# Altium footprint library QFN.PcbLib: 24 footprints (part 2 of 2)
Each footprint in its own frame and in the unit in brackets; x right, y up, seen from the top. Pads: shape width x height; smd on the part's side, far side on the other; paste and mask are expansions set on the pad; w line width, h text height; cw(c..) or ccw(c..) is an arc to the next point about the centre after c.
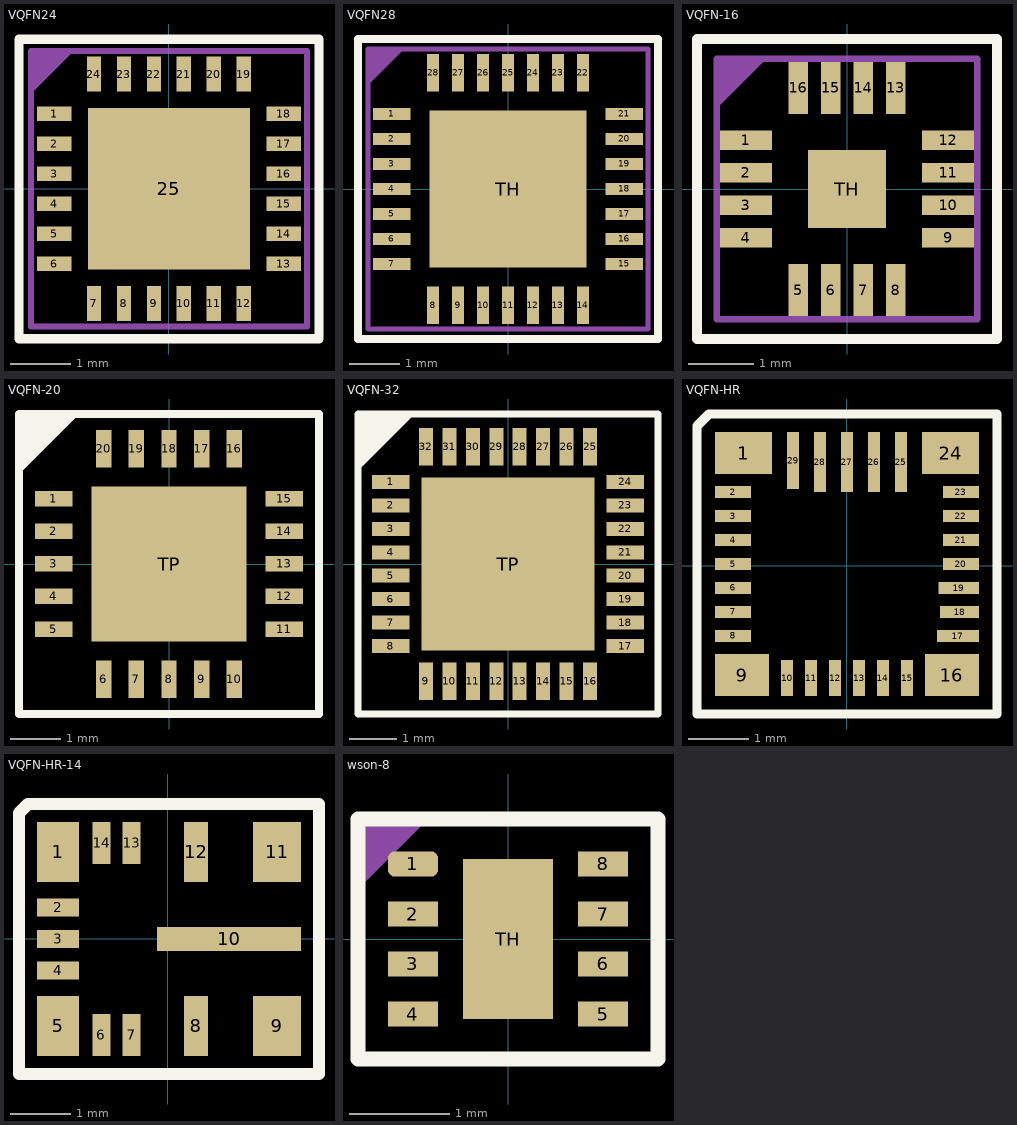
[diagram p1: the footprints below, top view; thin cyan lines are the x and y axes]

## VQFN24 [mm]
pads (25):
  rect 0.58x0.24 smd: 1(-1.912,1.25) 2(-1.912,0.75) 3(-1.912,0.25) 4(-1.912,-0.25) 5(-1.912,-0.75) 6(-1.912,-1.25) 13(1.912,-1.25) 14(1.912,-0.75) 15(1.912,-0.25) 16(1.912,0.25) 17(1.912,0.75) 18(1.912,1.25)
  rect 0.24x0.58 smd: 7(-1.25,-1.912) 8(-0.75,-1.912) 9(-0.25,-1.912) 10(0.25,-1.912) 11(0.75,-1.912) 12(1.25,-1.912) 19(1.25,1.913) 20(0.75,1.913) 21(0.25,1.913) 22(-0.25,1.913) 23(-0.75,1.913) 24(-1.25,1.913)
  rect 2.7x2.7 smd: 25(0,0)
Top Overlay:
  lines w0.153: -2.5,-2.5 -2.5,2.491 2.502,2.491 2.502,-2.5 -2.5,-2.5
  text "." at -3.196,2.054 h1.52
Top Assembly:
  region: -2.3,2.3 -1.65,2.3 -2.3,1.65
  lines w0.1: -2.3,1.65 -1.65,2.3 ; -2.3,-2.3 -2.3,2.3 2.3,2.3 2.3,-2.3 -2.3,-2.3
  text "'.Designator'" at -2.447,3.02 h0.8
Top Courtyard:
  lines w0.1: -2.3,1.65 -1.65,2.3 ; -2.3,-2.3 -2.3,2.3 2.3,2.3 2.3,-2.3 -2.3,-2.3
  lines w0.153: -0.4,0 0.4,0 ; 0,-0.4 0,0.4
3D body "VQFN-24.step": height 1.06, standoff -0.01, extent -2.05,-2.05 2.05,2.05

## VQFN28 [mm]
pads (29):
  rect 0.75x0.24 smd: 1(-2.325,1.5) 2(-2.325,1) 3(-2.325,0.5) 4(-2.325,0) 5(-2.325,-0.5) 6(-2.325,-1) 7(-2.325,-1.5) 15(2.325,-1.5) 16(2.325,-1) 17(2.325,-0.5) 18(2.325,0) 19(2.325,0.5) 20(2.325,1) 21(2.325,1.5)
  rect 0.24x0.75 smd: 8(-1.5,-2.325) 9(-1,-2.325) 10(-0.5,-2.325) 11(0,-2.325) 12(0.5,-2.325) 13(1,-2.325) 14(1.5,-2.325) 22(1.5,2.325) 23(1,2.325) 24(0.5,2.325) 25(0,2.325) 26(-0.5,2.325) 27(-1,2.325) 28(-1.5,2.325)
  rect 3.15x3.15 smd: TH(0,0)
Top Overlay:
  lines w0.153: -3,-3 3,-3 3,3 -3,3 -3,-3
  text "." at -3.821,2.279 h1.52
Top Assembly:
  region: -2.8,2.8 -2.15,2.8 -2.8,2.15
  lines w0.1: -2.8,2.15 -2.15,2.8 ; -2.8,-2.8 -2.8,2.8 2.8,2.8 2.8,-2.8 -2.8,-2.8
  text "'.Designator'" at -2.447,3.02 h0.8
Top Courtyard:
  lines w0.1: -2.8,2.15 -2.15,2.8 ; -2.8,-2.8 2.8,-2.8 2.8,2.8 -2.8,2.8 -2.8,-2.8
  lines w0.153: -0.4,0 0.4,0 ; 0,-0.4 0,0.4
3D body "QFN28_5x5.step": height 0.95, standoff 0, extent -2.6,-2.6 2.6,2.6

## VQFN-16 [mm]
pads (17):
  rect 0.8x0.3 smd: 1(-1.55,0.75) 2(-1.55,0.25) 3(-1.55,-0.25) 4(-1.55,-0.75) 9(1.55,-0.75) 10(1.55,-0.25) 11(1.55,0.25) 12(1.55,0.75)
  rect 0.3x0.8 smd: 5(-0.75,-1.55) 6(-0.25,-1.55) 7(0.25,-1.55) 8(0.75,-1.55) 13(0.75,1.55) 14(0.25,1.55) 15(-0.25,1.55) 16(-0.75,1.55)
  rect 1.2x1.2 smd: TH(0,0)
Top Overlay:
  lines w0.153: -2.3,-2.3 -2.3,2.3 2.3,2.3 2.3,-2.3 -2.3,-2.3
  text "." at -3.046,2.229 h1.52
Top Assembly:
  region: -1.975,1.975 -1.325,1.975 -1.975,1.325
  lines w0.1: -2,1.3 -1.3,2 ; -2,-2 2,-2 2,2 -2,2 -2,-2
  text "'.Designator'" at -4.532,-0.333 h0.8
Top Courtyard:
  lines w0.1: -2,1.3 -1.3,2 ; -2,-2 -2,2 2,2 2,-2 -2,-2
  lines w0.153: -0.325,0 0.325,0 ; 0,-0.325 0,0.325
3D body "VQFN16.step": height 0.9, standoff 0, extent -1.75,-1.75 1.75,1.75

## VQFN-20 [mm]
pads (21):
  rect 0.75x0.31 smd: 1(-2.3,1.3) 2(-2.3,0.65) 3(-2.3,0) 4(-2.3,-0.65) 5(-2.3,-1.3) 11(2.3,-1.3) 12(2.3,-0.65) 13(2.3,0) 14(2.3,0.65) 15(2.3,1.3)
  rect 0.31x0.75 smd: 6(-1.3,-2.3) 7(-0.65,-2.3) 8(0,-2.3) 9(0.65,-2.3) 10(1.3,-2.3) 16(1.3,2.3) 17(0.65,2.3) 18(0,2.3) 19(-0.65,2.3) 20(-1.3,2.3)
  rect 3.1x3.1 smd: TP(0,0)
Top Overlay:
  region: -3,3 -1.8,3 -3,1.8
  lines w0.153: -3,-3 3,-3 3,3 -3,3 -3,-3
Top Assembly:
  region: -3,3 -1.8,3 -3,1.8
  lines w0.1: -3,-3 -3,3 3,3 3,-3 -3,-3
  text "'.Designator'" at -4.532,-0.333 h0.8
Top Courtyard:
  lines w0.1: -3,-3 -3,3 3,3 3,-3 -3,-3
  lines w0.153: -0.325,0 0.325,0 ; 0,-0.325 0,0.325
3D body "User Library-VQFN-20-1.step": height 1, standoff -0.05, extent -2.625,-2.625 2.625,2.625

## VQFN-32 [mm]
pads (33):
  rect 0.8x0.3 smd mask+0.05: 1(-2.5,1.75) 2(-2.5,1.25) 3(-2.5,0.75) 4(-2.5,0.25) 5(-2.5,-0.25) 6(-2.5,-0.75) 7(-2.5,-1.25) 8(-2.5,-1.75) 17(2.5,-1.75) 18(2.5,-1.25) 19(2.5,-0.75) 20(2.5,-0.25) 21(2.5,0.25) 22(2.5,0.75) 23(2.5,1.25) 24(2.5,1.75)
  rect 0.3x0.8 smd mask+0.05: 9(-1.75,-2.5) 10(-1.25,-2.5) 11(-0.75,-2.5) 12(-0.25,-2.5) 13(0.25,-2.5) 14(0.75,-2.5) 15(1.25,-2.5) 16(1.75,-2.5) 25(1.75,2.5) 26(1.25,2.5) 27(0.75,2.5) 28(0.25,2.5) 29(-0.25,2.5) 30(-0.75,2.5) 31(-1.25,2.5) 32(-1.75,2.5)
  rect 3.7x3.7 smd mask+0.05: TP(0,0)
Top Overlay:
  region: -3.2,3.2 -2,3.2 -3.2,2
  lines w0.153: -3.2,-3.2 3.2,-3.2 3.2,3.2 -3.2,3.2 -3.2,-3.2
Top Assembly:
  region: -3.2,3.2 -2,3.2 -3.2,2
  lines w0.1: -3.2,-3.2 3.2,-3.2 3.2,3.2 -3.2,3.2 -3.2,-3.2
  text "'.Designator'" at -4.532,-0.333 h0.8
Top Courtyard:
  lines w0.1: -3.2,-3.2 3.2,-3.2 3.2,3.2 -3.2,3.2 -3.2,-3.2
  lines w0.153: -0.325,0 0.325,0 ; 0,-0.325 0,0.325
3D body "QFN32-5x5.STEP": height 0.77, standoff 0, extent -2.51,-2.51 2.51,2.51

## VQFN-HR [mm]
pads (29):
  rect 0.95x0.7 smd: 1(-1.725,1.875) 24(1.725,1.875)
  rect 0.6x0.2 smd: 2(-1.9,1.225) 3(-1.9,0.825) 4(-1.9,0.425) 5(-1.9,0.025) 6(-1.9,-0.375) 7(-1.9,-0.775) 8(-1.9,-1.175) 20(1.9,0.025) 21(1.9,0.425) 22(1.9,0.825) 23(1.9,1.225)
  rect 0.9x0.7 smd: 9(-1.75,-1.825) 16(1.75,-1.825)
  rect 0.2x0.6 smd: 10(-1,-1.875) 11(-0.6,-1.875) 12(-0.2,-1.875) 13(0.2,-1.875) 14(0.6,-1.875) 15(1,-1.875)
  rect 0.7x0.2 smd: 17(1.85,-1.175)
  rect 0.65x0.2 smd: 18(1.875,-0.775)
  rect 0.68x0.2 smd: 19(1.863,-0.375)
  rect 0.2x1 smd: 25(0.9,1.725) 26(0.45,1.725) 27(0,1.725) 28(-0.45,1.725)
  rect 0.2x0.95 smd: 29(-0.9,1.75)
Top Overlay:
  lines w0.153: -2.5,2.325 -2.3,2.525 2.5,2.525 ; -2.5,2.3 -2.5,-2.475 2.5,-2.475 2.5,2.525
Top Assembly:
  text "BAD" at -1.072,3.353 h0.8

## VQFN-HR-14 [mm]
pads (14):
  rect 0.7x1 smd: 1(-1.825,1.45) 5(-1.825,-1.45)
  rect 0.7x0.3 smd: 2(-1.825,0.525) 3(-1.825,0) 4(-1.825,-0.525)
  rect 0.3x0.7 smd: 6(-1.1,-1.6) 7(-0.6,-1.6) 13(-0.6,1.6) 14(-1.1,1.6)
  rect 0.4x1 smd: 8(0.475,-1.45) 12(0.475,1.45)
  rect 0.8x1 smd: 9(1.825,-1.45) 11(1.825,1.45)
  rect 2.4x0.4 smd: 10(1.025,0)
Top Overlay:
  lines w0.2: -2.475,-2.25 2.525,-2.25 2.525,2.25 -2.325,2.25 -2.475,2.1 -2.475,-2.25
Top Assembly:
  text "BAD" at -1.097,2.828 h0.8

## wson-8 [mm]
pads (9):
  rrect50% 0.5x0.25 smd: 1(-0.95,0.75)
  rect 0.5x0.25 smd: 2(-0.95,0.25) 3(-0.95,-0.25) 4(-0.95,-0.75) 5(0.95,-0.75) 6(0.95,-0.25) 7(0.95,0.25) 8(0.95,0.75)
  rect 0.9x1.6 smd: TH(0,0)
Top Overlay:
  lines w0.153: -1.5,-1.2 -1.5,1.2 1.5,1.2 1.5,-1.2 -1.5,-1.2
  text "." at -1.947,0.953 h0.8
Top Assembly:
  region: -1.5,1.15 -0.85,1.15 -1.5,0.5
  lines w0.1: -1.5,-1.2 -1.5,1.2 1.5,1.2 1.5,-1.2 -1.5,-1.2
  text "'.Designator'" at -4.532,1.72 h0.8
Top Courtyard:
  lines w0.1: -0.4,0 0.4,0 ; 0,-0.4 0,0.4 ; -1.5,-1.2 -1.5,1.2 1.5,1.2 1.5,-1.2 -1.5,-1.2
3D body "IC_Texas_Instruments_OPA2170AIDSGR_eec.STEP": height 0.8, standoff 0, extent -1,-1 1,1